# Altium footprint library BMS Interface Board.PcbLib: 17 footprints (part 2 of 2)
Each footprint in its own frame and in the unit in brackets; x right, y up, seen from the top. Pads: shape width x height; smd on the part's side, far side on the other; paste and mask are expansions set on the pad; w line width, h text height; cw(c..) or ccw(c..) is an arc to the next point about the centre after c.
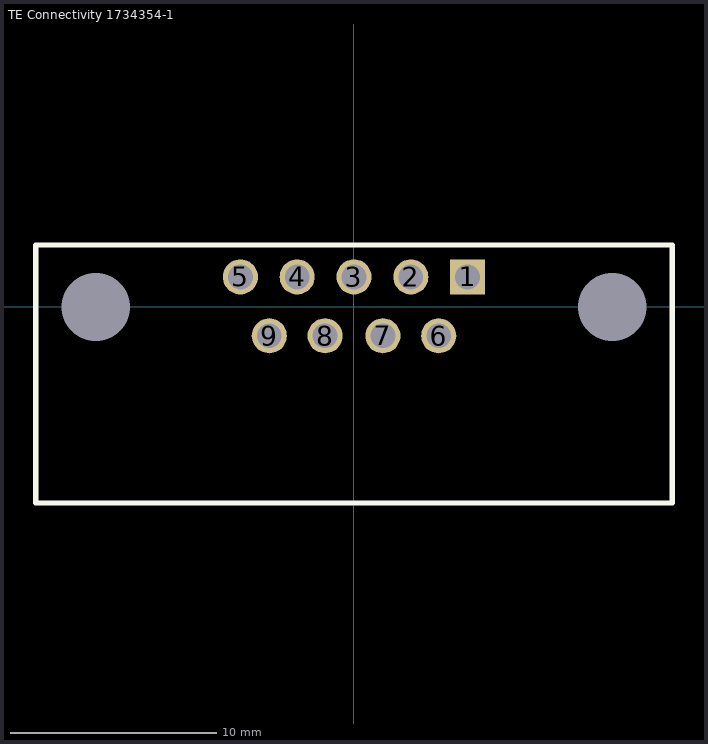
[diagram p1: the footprint, top view; thin cyan lines are the x and y axes]

## TE Connectivity 1734354-1 [mm] "Female Right-Angle DB9 Connector"
height 12.5
pads (11):
  rect 1.7x1.7 hole 1.2: 1(5.5,1.45)
  round 1.7 hole 1.2: 2(2.75,1.45) 3(0,1.45) 4(-2.75,1.45) 5(-5.5,1.45) 6(4.1,-1.4) 7(1.4,-1.4) 8(-1.4,-1.4) 9(-4.1,-1.4)
  round 0 hole 3.3: ""(-12.5,0) ""(12.5,0)
Top Overlay:
  lines w0.25: -15.4,-9.5 15.4,-9.5 15.4,3 -15.4,3 -15.4,-9.5
3D body: height 12.45, standoff -4.15, extent -15.4,-15.52 15.4,2.9